# Altium schematic symbol library Schlib2.SchLib: 1 symbol
Pins are listed as number, name and electrical type; pins without a type are passive.

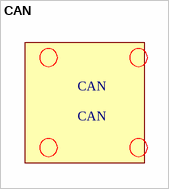
[diagram p0: symbol CAN]

## CAN
designator CAN
CAN for weight sensor skuSEN0160
footprint CAN (CAN for weight sensor)